# EAGLE library part HT16K33-SOP28 (library HT16K33-SOP28)
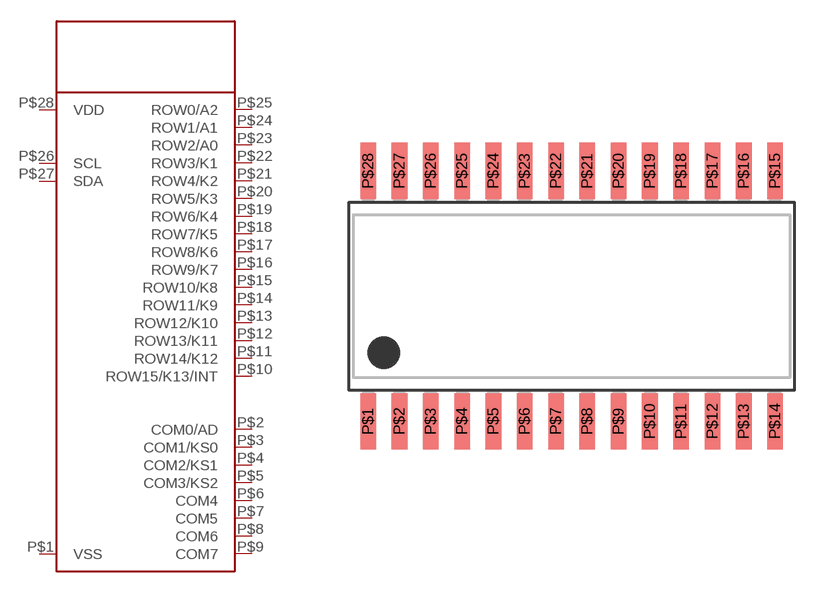
[diagram p0: symbol with the pads of SOP-28; footprint SOP-28]

Designator prefix U

## HT16K33-SOP28  [SOP-28]
P$1  VSS
P$2  COM0/AD
P$3  COM1/KS0
P$4  COM2/KS1
P$5  COM3/KS2
P$6  COM4
P$7  COM5
P$8  COM6
P$9  COM7
P$10  ROW15/K13/INT
P$11  ROW14/K12
P$12  ROW13/K11
P$13  ROW12/K10
P$14  ROW11/K9
P$15  ROW10/K8
P$16  ROW9/K7
P$17  ROW8/K6
P$18  ROW7/K5
P$19  ROW6/K4
P$20  ROW5/K3
P$21  ROW4/K2
P$22  ROW3/K1
P$23  ROW2/A0
P$24  ROW1/A1
P$25  ROW0/A2
P$26  SCL
P$27  SDA
P$28  VDD

## Footprint SOP-28 (pad centres in mm)
smd 0.635 x 2.286: P$1 -8.255,-5.08; P$2 -6.985,-5.08; P$3 -5.715,-5.08; P$4 -4.445,-5.08; P$5 -3.175,-5.08; P$6 -1.905,-5.08; P$7 -0.635,-5.08; P$8 0.635,-5.08; P$9 1.905,-5.08; P$10 3.175,-5.08; P$11 4.445,-5.08; P$12 5.715,-5.08; P$13 6.985,-5.08; P$14 8.255,-5.08; P$15 8.255,5.08; P$16 6.985,5.08; P$17 5.715,5.08; P$18 4.445,5.08; P$19 3.175,5.08; P$20 1.905,5.08; P$21 0.635,5.08; P$22 -0.635,5.08; P$23 -1.905,5.08; P$24 -3.175,5.08; P$25 -4.445,5.08; P$26 -5.715,5.08; P$27 -6.985,5.08; P$28 -8.255,5.08